# Altium schematic symbol library Schlib1.SchLib: 66 symbols
Pins are listed as number, name and electrical type; pins without a type are passive.

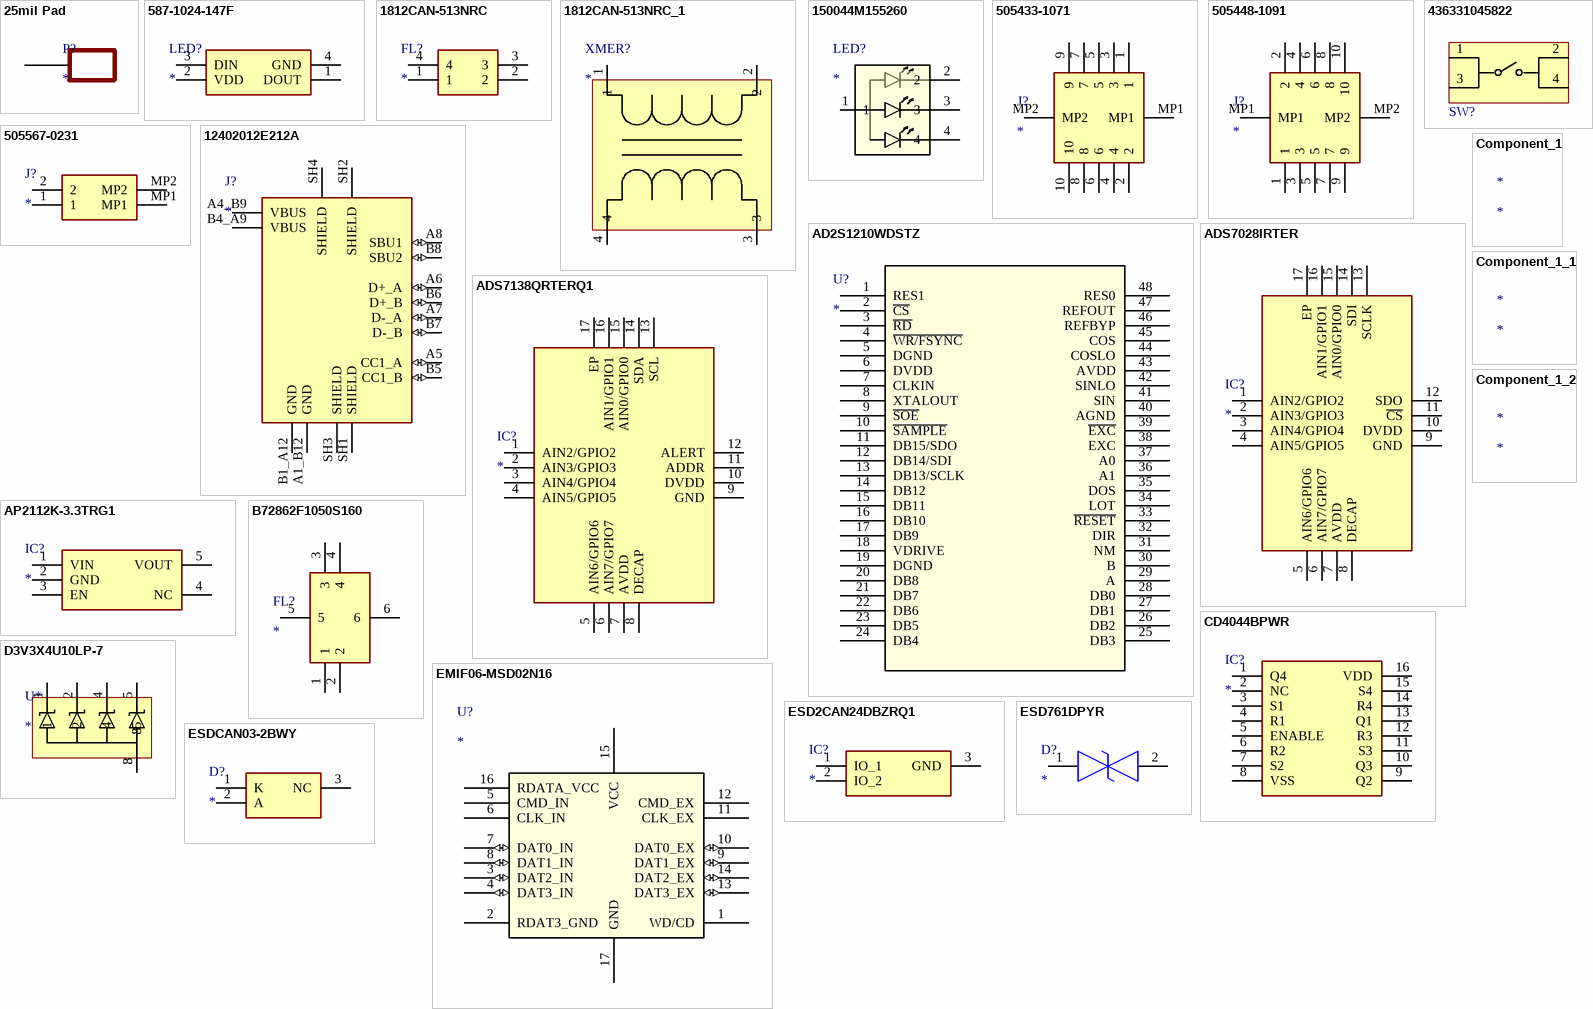
[diagram p0: symbols 25mil Pad to ESDCAN03-2BWY]

## 25mil Pad
designator P?
footprint PAD
pins: 0

## 587-1024-147F
designator LED?
LED; Manufacturer_Name: Dialight; Manufacturer_Part_Number: 587-1024-147F; Datasheet Link: https://s3-us-west-2.amazonaws.com/catsy.557/Dialight_datasheet_587-1024-147F_Addressable_RGB.pdf; Height: 0.9mm
footprint 5871024147F
pins: 1 DOUT, 2 VDD, 3 DIN, 4 GND

## 1812CAN-513NRC
designator FL?
Filter; Manufacturer_Name: COILCRAFT; Manufacturer_Part_Number: 1812CAN-513NRC; Datasheet Link: https://www.coilcraft.com/getmedia/07970769-ca48-411d-9c96-6ae867bbb31e/1812can.pdf; Height: 3mm; Mouser Part Number: 994-1812CAN-513NRC; Mouser Price/Stock: https://www.mouser.co.uk/ProductDetail/Coilcraft/1812CAN-513NRC?qs=wnTfsH77Xs4YqxEo%2FcWzJA%3D%3D
footprint 1812CAN513NRC
pins: 1, 2, 3, 4

## 1812CAN-513NRC_1
designator XMER?
No Description Available; Mfr_Name: Coilcraft; RefDes: RefDes; Type: Type
footprint XMER_1812CAN-513NRC_COC
pins: 1, 2, 3, 3, 3, 4

## 150044M155260
designator LED?
No Description Available; Mfr_Name: Wurth Electronics; RefDes: RefDes; Type: Type
footprint 150044M155260_WRE-L - duplicate
pins: 1, 2, 3, 4

## 505433-1071
designator J?
Connector; Manufacturer_Name: Molex; Manufacturer_Part_Number: 505433-1071; Datasheet Link: https://datasheet.datasheetarchive.com/originals/distributors/Datasheets_SAMA/5290a5563f9fde50455cc3ed2129c93a.pdf; Height: 7.25mm; Mouser Part Number: 538-505433-1071; Mouser Price/Stock: https://www.mouser.co.uk/ProductDetail/Molex/505433-1071?qs=gt1LBUVyoHnxbEZbXoNB2g%3D%3D
footprint 5054331071
pins: 1, 2, 3, 4, 5, 6, 7, 8, 9, 10, MP1, MP2

## 505448-1091
designator J?
Connector; Manufacturer_Name: Molex; Manufacturer_Part_Number: 505448-1091; Datasheet Link: https://www.molex.com/content/dam/molex/molex-dot-com/products/automated/en-us/salesdrawingpdf/505/505448/5054481091_sd.pdf; Height: 9.15mm; Mouser Part Number: 538-505448-1091; Mouser Price/Stock: https://www.mouser.co.uk/ProductDetail/Molex/505448-1091?qs=vmHwEFxEFR84Nb6AyJ3SnQ%3D%3D
footprint 5054481091
pins: 1, 2, 3, 4, 5, 6, 7, 8, 9, 10, MP1, MP2

## 505567-0231
designator J?
Connector; Manufacturer_Name: Molex; Manufacturer_Part_Number: 505567-0231; Datasheet Link: https://www.molex.com/pdm_docs/sd/5055670231_sd.pdf; Height: 4.1mm; Mouser Part Number: 538-505567-0231; Mouser Price/Stock: https://www.mouser.co.uk/ProductDetail/Molex/505567-0231?qs=vmHwEFxEFR9FgO9VigwN8A%3D%3D
footprint 5055670231
pins: 1, 2, MP1, MP2

## 12402012E212A
designator J?
USB2.0, Type C, Top mount, CH 1.68mm, Dual Row SMT; MP: 12402012E212A; MF: Amphenol ICC (Commercial Products); Price: None; Package: None; Availability: In Stock; SnapEDA_Link: https://www.snapeda.com/parts/12402012E212A/Amphenol/view-part/?ref=snap; Value: *; Check_prices: https://www.snapeda.com/parts/12402012E212A/Amphenol/view-part/?ref=eda; Purchase-URL: https://pricing.snapeda.com/search/part/12402012E212A/?ref=eda
footprint AMPHENOL_12402012E212A
pins: A1_B12 GND (power), A4_B9 VBUS (power), A5 CC1_A (io), A6 D+_A (io), A7 D-_A (io), A8 SBU1 (io), B1_A12 GND (power), B4_A9 VBUS (power), B5 CC1_B (io), B6 D+_B (io), B7 D-_B (io), B8 SBU2 (io), SH1 SHIELD, SH2 SHIELD, SH3 SHIELD, SH4 SHIELD

## 436331045822
designator SW?  (value not drawn)
footprint Wurth_0_MFG
pins: 1, 2, 3, 4

## AD2S1210WDSTZ
designator U?
No Description Available; Mfr_Name: Analog Devices Inc; RefDes: RefDes; Type: Type
footprint AD2S1210WDSTZ_ADI
pins: 1 RES1, 2 ~{CS}, 3 ~{RD}, 4 ~{WR/FSYNC}, 5 DGND, 6 DVDD, 7 CLKIN, 8 XTALOUT, 9 ~{SOE}, 10 ~{SAMPLE}, 11 DB15/SDO, 12 DB14/SDI, 13 DB13/SCLK, 14 DB12, 15 DB11, 16 DB10, 17 DB9, 18 VDRIVE, 19 DGND, 20 DB8, 21 DB7, 22 DB6, 23 DB5, 24 DB4, 25 DB3, 26 DB2, 27 DB1, 28 DB0, 29 A, 30 B, 31 NM, 32 DIR, 33 ~{RESET}, 34 LOT, 35 DOS, 36 A1, 37 A0, 38 EXC, 39 ~{EXC}, 40 AGND, 41 SIN, 42 SINLO, 43 AVDD, 44 COSLO, 45 COS, 46 REFBYP, 47 REFOUT, 48 RES0

## ADS7028IRTER
designator IC?
Integrated Circuit; Manufacturer_Name: Texas Instruments; Manufacturer_Part_Number: ADS7028IRTER; Datasheet Link: https://www.arrow.com/en/products/ads7028irter/texas-instruments; Height: 0.8mm; Mouser Part Number: 595-ADS7028IRTER; Mouser Price/Stock: https://www.mouser.co.uk/ProductDetail/Texas-Instruments/ADS7028IRTER?qs=%252B6g0mu59x7L0mzHBJBWvJw%3D%3D; Arrow Part Number: ADS7028IRTER; Arrow Price/Stock: https://www.arrow.com/en/products/ads7028irter/texas-instruments
footprint QFN50P300X300X80-17N-D
pins: 1 AIN2/GPIO2, 2 AIN3/GPIO3, 3 AIN4/GPIO4, 4 AIN5/GPIO5, 5 AIN6/GPIO6, 6 AIN7/GPIO7, 7 AVDD, 8 DECAP, 9 GND, 10 DVDD, 11 ~{CS}, 12 SDO, 13 SCLK, 14 SDI, 15 AIN0/GPIO0, 16 AIN1/GPIO1, 17 EP

## ADS7138QRTERQ1
designator IC?
Integrated Circuit; Manufacturer_Name: Texas Instruments; Manufacturer_Part_Number: ADS7138QRTERQ1; Datasheet Link: https://www.arrow.com/en/products/ads7138qrterq1/texas-instruments; Height: 0.8mm; Mouser Part Number: 595-ADS7138QRTERQ1; Mouser Price/Stock: https://www.mouser.co.uk/ProductDetail/Texas-Instruments/ADS7138QRTERQ1?qs=T94vaHKWudS4Tv1qZ6show%3D%3D; Arrow Part Number: ADS7138QRTERQ1; Arrow Price/Stock: https://www.arrow.com/en/products/ads7138qrterq1/texas-instruments?region=nac
footprint QFN50P300X300X80-17N-D
pins: 1 AIN2/GPIO2, 2 AIN3/GPIO3, 3 AIN4/GPIO4, 4 AIN5/GPIO5, 5 AIN6/GPIO6, 6 AIN7/GPIO7, 7 AVDD, 8 DECAP, 9 GND, 10 DVDD, 11 ADDR, 12 ALERT, 13 SCL, 14 SDA, 15 AIN0/GPIO0, 16 AIN1/GPIO1, 17 EP

## AP2112K-3.3TRG1
designator IC?
Integrated Circuit; Manufacturer_Name: Diodes Incorporated; Manufacturer_Part_Number: AP2112K-3.3TRG1; Datasheet Link: https://www.diodes.com//assets/Datasheets/AP2112.pdf; Height: 1.4mm; Mouser Part Number: 621-AP2112K-3.3TRG1; Mouser Price/Stock: https://www.mouser.co.uk/ProductDetail/Diodes-Incorporated/AP2112K-3.3TRG1?qs=x6A8l6qLYDDPYHosCdzh%2FA%3D%3D; Arrow Part Number: AP2112K-3.3TRG1; Arrow Price/Stock: https://www.arrow.com/en/products/ap2112k-3.3trg1/diodes-incorporated?region=europe
footprint SOT95P285X140-5N
pins: 1 VIN, 2 GND, 3 EN, 4 NC, 5 VOUT

## B72862F1050S160
designator FL?
Filter; Manufacturer_Name: TDK; Manufacturer_Part_Number: B72862F1050S160; Datasheet Link: https://product.tdk.com/system/files/dam/doc/product/protection/voltage/varistor_ctvs/data_sheet/75/db/ctvs_14/esd_emi_filter_series.pdf; Height: 0.65mm
footprint B72862F1050S160
pins: 1, 2, 3, 4, 5, 6

## CD4044BPWR
designator IC?
Integrated Circuit; Manufacturer_Name: Texas Instruments; Manufacturer_Part_Number: CD4044BPWR; Datasheet Link: http://www.ti.com/lit/gpn/cd4044b; Height: 1.2mm; Mouser Part Number: 595-CD4044BPWR; Mouser Price/Stock: https://www.mouser.co.uk/ProductDetail/Texas-Instruments/CD4044BPWR?qs=LSR%252BNeaw%2FwA0JC88gEuhWQ%3D%3D; Arrow Part Number: CD4044BPWR; Arrow Price/Stock: https://www.arrow.com/en/products/cd4044bpwr/texas-instruments?utm_currency=USD&region=nac
footprint SOP65P640X120-16N
pins: 1 Q4, 2 NC, 3 S1, 4 R1, 5 ENABLE, 6 R2, 7 S2, 8 VSS, 9 Q2, 10 Q3, 11 S3, 12 R3, 13 Q1, 14 R4, 15 S4, 16 VDD

## Component_1
designator *

## Component_1_1
designator *

## Component_1_2
designator *

## D3V3X4U10LP-7
designator U*
footprint DIO_DT1240-04LP-7
pins: 1, 2, 3, 4, 5, 8

## EMIF06-MSD02N16
designator U?
No Description Available; Mfr_Name: STMicroelectronics; RefDes: RefDes; Type: Type
footprint EMIF06MSD02N16
pins: 1 WD/CD, 2 RDAT3_GND (power), 3 DAT2_IN (io), 4 DAT3_IN (io), 5 CMD_IN, 6 CLK_IN, 7 DAT0_IN (io), 8 DAT1_IN (io), 9 DAT1_EX (io), 10 DAT0_EX (io), 11 CLK_EX, 12 CMD_EX, 13 DAT3_EX (io), 14 DAT2_EX (io), 15 VCC (power), 16 RDATA_VCC, 17 GND (power)

## ESD2CAN24DBZRQ1
designator IC?
Integrated Circuit; Manufacturer_Name: Texas Instruments; Manufacturer_Part_Number: ESD2CAN24DBZRQ1; Datasheet Link: https://www.ti.com/lit/ds/symlink/esd2can24-q1.pdf?ts=1669637432096&ref_url=https%253A%252F%252Fwww.ti.com%252Fproduct%252FESD2CAN24-Q1; Height: 1.12mm; Mouser Part Number: 595-ESD2CAN24DBZRQ1; Mouser Price/Stock: https://www.mouser.co.uk/ProductDetail/Texas-Instruments/ESD2CAN24DBZRQ1?qs=Y0Uzf4wQF3knJz9mU6BNuw%3D%3D; Arrow Part Number: ESD2CAN24DBZRQ1; Arrow Price/Stock: https://www.arrow.com/en/products/esd2can24dbzrq1/texas-instruments?utm_currency=USD&region=nac
footprint SOT95P237X112-3N
pins: 1 IO_1, 2 IO_2, 3 GND

## ESD761DPYR
designator D?
TVS Diode (Bi-directional); Manufacturer_Name: Texas Instruments; Manufacturer_Part_Number: ESD761DPYR; Datasheet Link: https://www.ti.com/lit/gpn/esd761; Height: 0.45mm; Mouser Part Number: 595-ESD761DPYR; Mouser Price/Stock: https://www.mouser.co.uk/ProductDetail/Texas-Instruments/ESD761DPYR?qs=rQFj71Wb1eUSXtGpLU8xBg%3D%3D; Arrow Part Number: ESD761DPYR; Arrow Price/Stock: https://www.arrow.com/en/products/esd761dpyr/texas-instruments?utm_currency=USD&region=nac
footprint ESD761DPYR
pins: 1, 2

## ESDCAN03-2BWY
designator D?
TVS Diode (Uni-directional); Manufacturer_Name: STMicroelectronics; Manufacturer_Part_Number: ESDCAN03-2BWY; Datasheet Link: https://www.mouser.de/datasheet/2/389/esdcan02-2bwy-954689.pdf; Height: 1.1mm; Mouser Part Number: 511-ESDCAN03-2BWY; Mouser Price/Stock: https://www.mouser.co.uk/ProductDetail/STMicroelectronics/ESDCAN03-2BWY?qs=FqY30PPN9V2iiokjuqa22Q%3D%3D; Arrow Part Number: ESDCAN03-2BWY; Arrow Price/Stock: https://www.arrow.com/en/products/esdcan03-2bwy/stmicroelectronics?region=nac
footprint SOT65P210X110-3N
pins: 1 K, 2 A, 3 NC

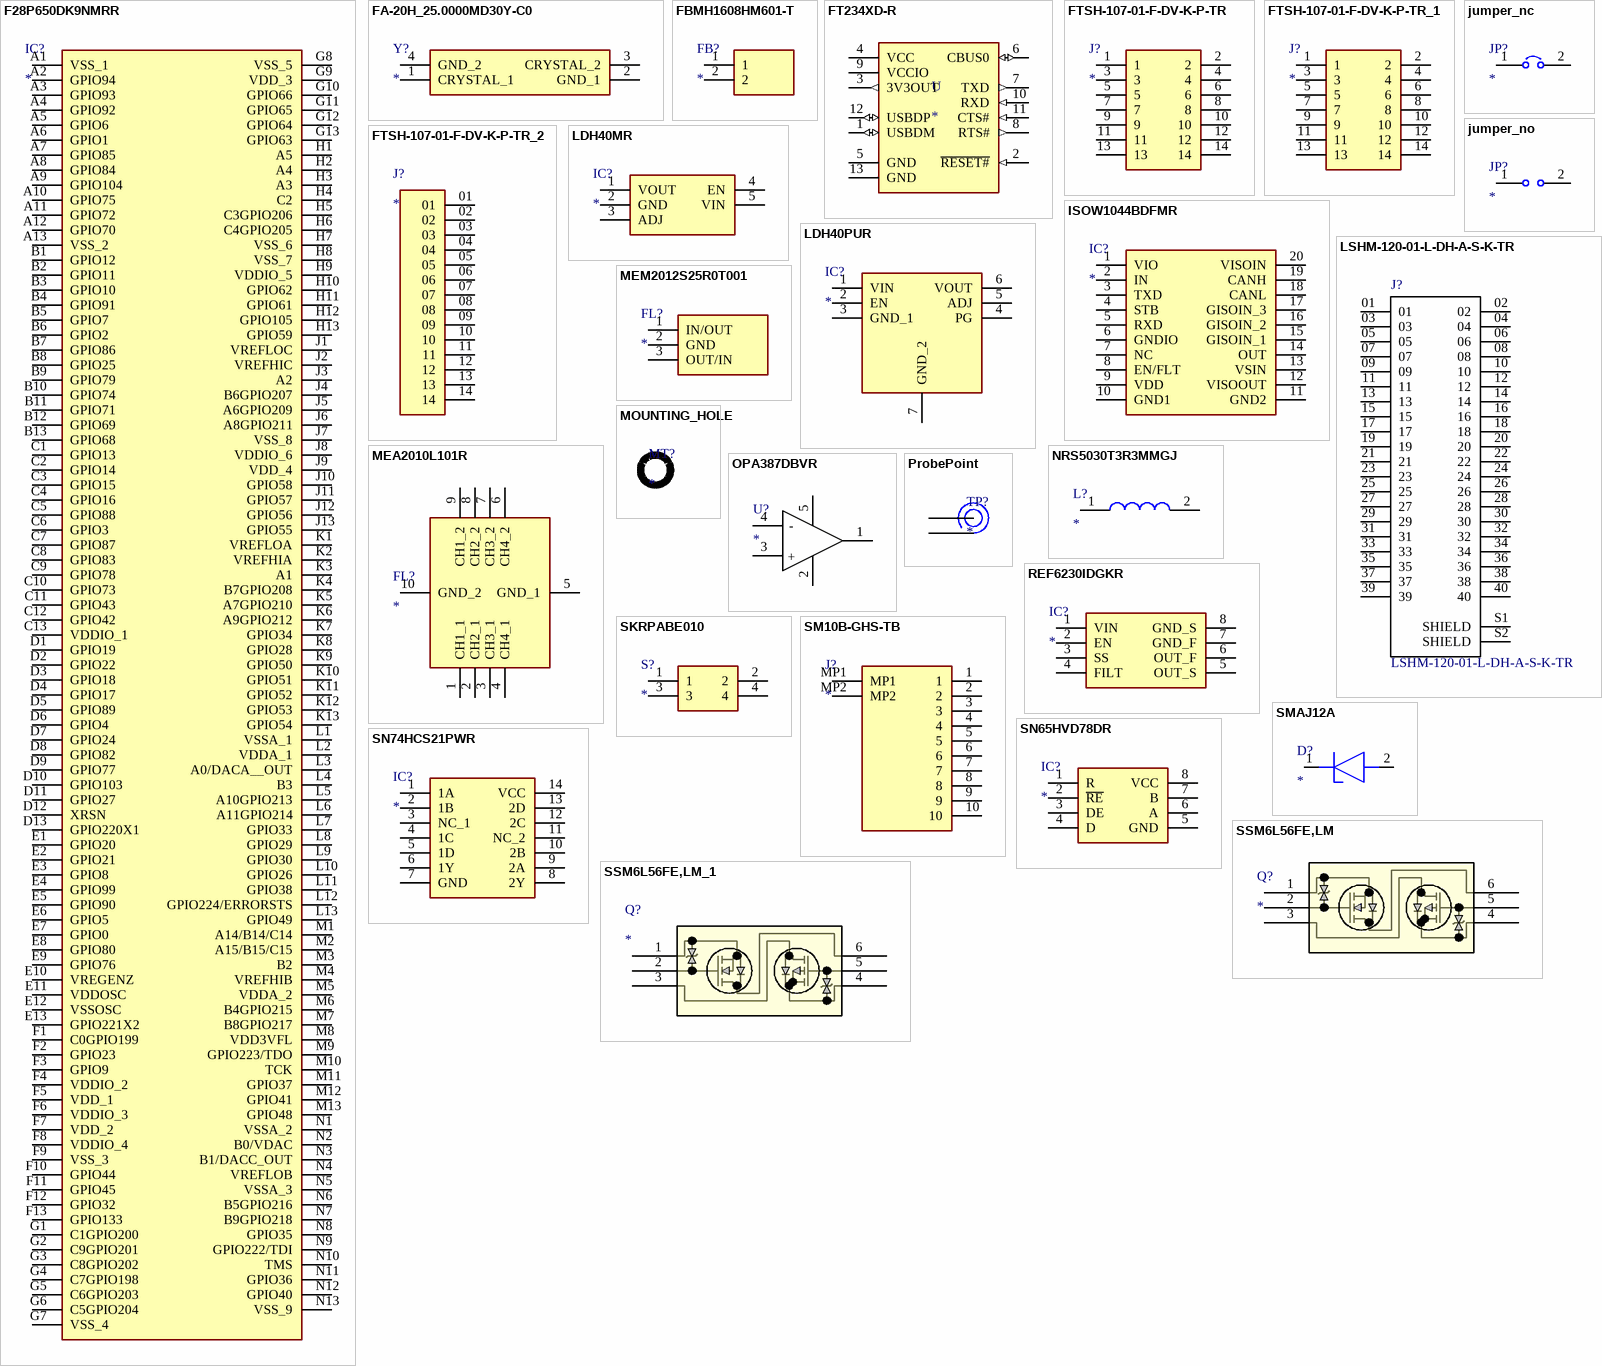
[diagram p1: symbols F28P650DK9NMRR to SSM6L56FE,LM_1]

## F28P650DK9NMRR
designator IC?
Integrated Circuit; Manufacturer_Name: Texas Instruments; Manufacturer_Part_Number: F28P650DK9NMRR; Datasheet Link: https://www.ti.com/lit/ds/symlink/tms320f28p650dk.pdf?ts=1743172224818&ref_url=https%253A%252F%252Fwww.ti.com%252Fproduct%252FTMS320F28P650DK%252Fpart-details%252FXF28P650DK9PTP; Height: 1mm; Mouser Part Number: 595-F28P650DK9NMRR; Mouser Price/Stock: https://www.mouser.co.uk/ProductDetail/Texas-Instruments/F28P650DK9NMRR?qs=ZcfC38r4PouP1IzeuqZ7kg%3D%3D; Arrow Part Number: F28P650DK9NMRR; Arrow Price/Stock: https://www.arrow.com/en/products/f28p650dk9nmrr/texas-instruments?utm_currency=USD&region=nac
footprint BGA169C65P13X13_900X900X100
pins: A1 VSS_1, A2 GPIO94, A3 GPIO93, A4 GPIO92, A5 GPIO6, A6 GPIO1, A7 GPIO85, A8 GPIO84, A9 GPIO104, A10 GPIO75, A11 GPIO72, A12 GPIO70, A13 VSS_2, B1 GPIO12, B2 GPIO11, B3 GPIO10, B4 GPIO91, B5 GPIO7, B6 GPIO2, B7 GPIO86, B8 GPIO25, B9 GPIO79, B10 GPIO74, B11 GPIO71, B12 GPIO69, B13 GPIO68, C1 GPIO13, C2 GPIO14, C3 GPIO15, C4 GPIO16, C5 GPIO88, C6 GPIO3, C7 GPIO87, C8 GPIO83, C9 GPIO78, C10 GPIO73, C11 GPIO43, C12 GPIO42, C13 VDDIO_1, D1 GPIO19, D2 GPIO22, D3 GPIO18, D4 GPIO17, D5 GPIO89, D6 GPIO4, D7 GPIO24, D8 GPIO82, D9 GPIO77, D10 GPIO103, D11 GPIO27, D12 XRSN, D13 GPIO220X1, E1 GPIO20, E2 GPIO21, E3 GPIO8, E4 GPIO99, E5 GPIO90, E6 GPIO5, E7 GPIO0, E8 GPIO80, E9 GPIO76, E10 VREGENZ, E11 VDDOSC, E12 VSSOSC, E13 GPIO221X2, F1 C0GPIO199, F2 GPIO23, F3 GPIO9, F4 VDDIO_2, F5 VDD_1, F6 VDDIO_3, F7 VDD_2, F8 VDDIO_4, F9 VSS_3, F10 GPIO44, F11 GPIO45, F12 GPIO32, F13 GPIO133, G1 C1GPIO200, G2 C9GPIO201, G3 C8GPIO202, G4 C7GPIO198, G5 C6GPIO203, G6 C5GPIO204, G7 VSS_4, G8 VSS_5, G9 VDD_3, G10 GPIO66, G11 GPIO65, G12 GPIO64, G13 GPIO63, H1 A5, H2 A4, H3 A3, H4 C2, H5 C3GPIO206, H6 C4GPIO205, H7 VSS_6, H8 VSS_7, H9 VDDIO_5, H10 GPIO62, H11 GPIO61, H12 GPIO105, H13 GPIO59, J1 VREFLOC, J2 VREFHIC, J3 A2, J4 B6GPIO207, J5 A6GPIO209, J6 A8GPIO211, J7 VSS_8, J8 VDDIO_6, J9 VDD_4, J10 GPIO58, J11 GPIO57, J12 GPIO56, J13 GPIO55, K1 VREFLOA, K2 VREFHIA, K3 A1, K4 B7GPIO208, K5 A7GPIO210, K6 A9GPIO212, K7 GPIO34, K8 GPIO28, K9 GPIO50, K10 GPIO51, K11 GPIO52, K12 GPIO53, K13 GPIO54, L1 VSSA_1, L2 VDDA_1, L3 A0/DACA__OUT, L4 B3, L5 A10GPIO213, L6 A11GPIO214, L7 GPIO33, L8 GPIO29, L9 GPIO30, L10 GPIO26, L11 GPIO38, L12 GPIO224/ERRORSTS, L13 GPIO49, M1 A14/B14/C14, M2 A15/B15/C15, M3 B2, M4 VREFHIB, M5 VDDA_2, M6 B4GPIO215, M7 B8GPIO217, M8 VDD3VFL, M9 GPIO223/TDO, M10 TCK, M11 GPIO37, M12 GPIO41, M13 GPIO48, N1 VSSA_2, N2 B0/VDAC, N3 B1/DACC_OUT, N4 VREFLOB, N5 VSSA_3, N6 B5GPIO216, N7 B9GPIO218, N8 GPIO35, N9 GPIO222/TDI, N10 TMS, N11 GPIO36, N12 GPIO40, N13 VSS_9

## FA-20H_25.0000MD30Y-C0
designator Y?
Crystal or Oscillator; Manufacturer_Name: Epson Timing; Manufacturer_Part_Number: FA-20H 25.0000MD30Y-C0; Datasheet Link: https://support.epson.biz/td/api/doc_check.php?dl=brief_FA-20H&lang=en; Height: 0.55mm; Mouser Part Number: 732-FA-20H25MD30Y-C0; Mouser Price/Stock: https://www.mouser.co.uk/ProductDetail/Epson-Timing/FA-20H-25.0000MD30Y-C0?qs=f9yNj16SXrILXPvNJZKsVQ%3D%3D; Arrow Part Number: FA-20H 25.0000MD30Y-C0; Arrow Price/Stock: https://www.arrow.com/en/products/fa-20h25.0000md30y-c0/epson-electronics-america
footprint FA20H160000MF12ZAC3
pins: 1 CRYSTAL_1, 2 GND_1, 3 CRYSTAL_2, 4 GND_2

## FBMH1608HM601-T
designator FB?
Ferrite Bead; Manufacturer_Name: TAIYO YUDEN; Manufacturer_Part_Number: FBMH1608HM601-T; Datasheet Link: https://componentsearchengine.com/Datasheets/2/FBMH1608HM601-T.pdf; Height: 0.9mm; Mouser Part Number: 963-FBMH1608HM601-T; Mouser Price/Stock: https://www.mouser.co.uk/ProductDetail/TAIYO-YUDEN/FBMH1608HM601-T?qs=I6KAKw0tg2y6O4cu0afp%252BA%3D%3D; Arrow Part Number: FBMH1608HM601-T; Arrow Price/Stock: https://www.arrow.com/en/products/fbmh1608hm601-t/taiyo-yuden
footprint BEADC1608X90N
pins: 1, 2

## FT234XD-R
designator U
USB Bridge, USB to UART USB 2.0 UART Interface 12-DFN _3x3_; MP: FT234XD-R; MF: FTDI,; SnapEDA_Link: https://www.snapeda.com/parts/FT234XD-R/FTDI,%20Future%20Technology%20Devices%20International%20Ltd/view-part/207972/?ref=snap; Package: DFN-12 FTDI; Price: None; Value: *; Availability: Unavailable
footprint SON45P300X300X75-13N-D
pins: 1 USBDM (io), 2 ~{RESET#} (in), 3 3V3OUT (out), 4 VCC (power), 5 GND (power), 6 CBUS0 (io), 7 TXD (out), 8 RTS# (out), 9 VCCIO (power), 10 RXD (in), 11 CTS# (in), 12 USBDP (io), 13 GND (power)

## FTSH-107-01-F-DV-K-P-TR
designator J?
Connector; Manufacturer_Name: SAMTEC; Manufacturer_Part_Number: FTSH-107-01-F-DV-K-P-TR; Datasheet Link: http://suddendocs.samtec.com/prints/ftsh-1xx-xx-xxx-dv-xxx-xxx-mkt.pdf; Mouser Part Number: 200-FTSH10701FDVKPTR; Mouser Price/Stock: https://www.mouser.co.uk/ProductDetail/Samtec/FTSH-107-01-F-DV-K-P-TR?qs=%252BZP6%2F%252BtExtAI0atx6lcXTg%3D%3D; Arrow Part Number: FTSH-107-01-F-DV-K-P-TR; Arrow Price/Stock: https://www.arrow.com/en/products/ftsh-107-01-f-dv-k-p-tr/samtec?utm_currency=USD&region=nac
footprint FTSH-107-XX-YYY-DV-K-P-TR
pins: 1, 2, 3, 4, 5, 6, 7, 8, 9, 10, 11, 12, 13, 14

## FTSH-107-01-F-DV-K-P-TR_1
designator J?
Connector; Manufacturer_Name: SAMTEC; Manufacturer_Part_Number: FTSH-107-01-F-DV-K-P-TR; Datasheet Link: http://suddendocs.samtec.com/prints/ftsh-1xx-xx-xxx-dv-xxx-xxx-mkt.pdf; Mouser Part Number: 200-FTSH10701FDVKPTR; Mouser Price/Stock: https://www.mouser.co.uk/ProductDetail/Samtec/FTSH-107-01-F-DV-K-P-TR?qs=%252BZP6%2F%252BtExtAI0atx6lcXTg%3D%3D; Arrow Part Number: FTSH-107-01-F-DV-K-P-TR; Arrow Price/Stock: https://www.arrow.com/en/products/ftsh-107-01-f-dv-k-p-tr/samtec?region=nac
footprint FTSH-107-XX-YYY-DV-K-P-TR
pins: 1, 2, 3, 4, 5, 6, 7, 8, 9, 10, 11, 12, 13, 14

## FTSH-107-01-F-DV-K-P-TR_2
designator J?
MP: FTSH-107-01-F-DV-K-P-TR; MF: Samtec; Price: None; Availability: Unavailable; Package: None; Value: *
footprint FTSH-107-XX-YYY-DV-K-P-TR
pins: 01, 02, 03, 04, 05, 06, 07, 08, 09, 10, 11, 12, 13, 14

## ISOW1044BDFMR
designator IC?
Integrated Circuit; Manufacturer_Name: Texas Instruments; Manufacturer_Part_Number: ISOW1044BDFMR; Datasheet Link: https://www.ti.com/lit/ds/symlink/isow1044.pdf?ts=1645295421849&ref_url=https%253A%252F%252Fwww.google.com%252F; Height: 3.55mm; Mouser Part Number: 595-ISOW1044BDFMR; Mouser Price/Stock: https://www.mouser.co.uk/ProductDetail/Texas-Instruments/ISOW1044BDFMR?qs=Li%252BoUPsLEnsRP1xV2fQwnw%3D%3D; Arrow Part Number: ISOW1044BDFMR; Arrow Price/Stock: https://www.arrow.com/en/products/isow1044bdfmr/texas-instruments?utm_currency=USD&region=nac
footprint SOIC127P1030X355-20N
pins: 1 VIO, 2 IN, 3 TXD, 4 STB, 5 RXD, 6 GNDIO, 7 NC, 8 EN/FLT, 9 VDD, 10 GND1, 11 GND2, 12 VISOOUT, 13 VSIN, 14 OUT, 15 GISOIN_1, 16 GISOIN_2, 17 GISOIN_3, 18 CANL, 19 CANH, 20 VISOIN

## jumper_nc
designator JP?
footprint jumper_nc
pins: 1, 2

## jumper_no
designator JP?
footprint jumper_no
pins: 1, 2

## LDH40MR
designator IC?
Integrated Circuit; Manufacturer_Name: STMicroelectronics; Manufacturer_Part_Number: LDH40MR; Datasheet Link: https://www.st.com/resource/en/datasheet/ldh40.pdf; Height: 1.25mm
footprint SOT95P280X125-5N
pins: 1 VOUT, 2 GND, 3 ADJ, 4 EN, 5 VIN

## LDH40PUR
designator IC?
Integrated Circuit; Manufacturer_Name: STMicroelectronics; Manufacturer_Part_Number: LDH40PUR; Datasheet Link: https://www.st.com/resource/en/datasheet/ldh40.pdf; Height: 0.8mm
footprint SON65P200X200X80-7N
pins: 1 VIN, 2 EN, 3 GND_1, 4 PG, 5 ADJ, 6 VOUT, 7 GND_2

## LSHM-120-01-L-DH-A-S-K-TR
designator J?
Value: *
footprint *SAMTEC_LSHM-120-01-L-DH-A-S-K-TR_LSHM-120-01-L-DH-A-S-K-TR(Primary)
pins: 01, 02, 03, 04, 05, 06, 07, 08, 09, 10, 11, 12, 13, 14, 15, 16, 17, 18, 19, 20, 21, 22, 23, 24, 25, 26, 27, 28, 29, 30, 31, 32, 33, 34, 35, 36, 37, 38, 39, 40, S1 SHIELD, S2 SHIELD

## MEA2010L101R
designator FL?
Filter; Manufacturer_Name: TDK; Manufacturer_Part_Number: MEA2010L101R; Datasheet Link: https://product.tdk.com/info/en/catalog/datasheets/3tf_commercial_signal_mea2010l_en.pdf; Height: 0.8mm; Mouser Part Number: 810-MEA2010L101R; Mouser Price/Stock: https://www.mouser.com/Search/Refine.aspx?Keyword=810-MEA2010L101R
footprint MEA2010L101R
pins: 1 CH1_1, 2 CH2_1, 3 CH3_1, 4 CH4_1, 5 GND_1, 6 CH4_2, 7 CH3_2, 8 CH2_2, 9 CH1_2, 10 GND_2

## MEM2012S25R0T001
designator FL?
Filter; Manufacturer_Name: TDK; Manufacturer_Part_Number: MEM2012S25R0T001; Datasheet Link: https://product.tdk.com/system/files/dam/doc/product/emc/emc/3tf/catalog/3tf_commercial_signal_mem2012s_en.pdf; Height: 1mm; Mouser Part Number: 810-MEM2012S25R0T001; Mouser Price/Stock: https://www.mouser.co.uk/ProductDetail/TDK/MEM2012S25R0T001?qs=uxmvvYJjMIvgfrdEOPTgFw%3D%3D; Arrow Part Number: MEM2012S25R0T001; Arrow Price/Stock: https://www.arrow.com/en/products/mem2012s25r0t001/tdk?region=nac
footprint MEM2012S25R0T001
pins: 1 IN/OUT, 2 GND, 3 OUT/IN

## MOUNTING_HOLE
designator MT?
Generic Mounting Hole
footprint MountingHole_3mm

## NRS5030T3R3MMGJ
designator L?
Inductor; Manufacturer_Name: TAIYO YUDEN; Manufacturer_Part_Number: NRS5030T3R3MMGJ; Datasheet Link: https://datasheet.datasheetarchive.com/originals/distributors/Datasheets-DGA11/2227925.pdf; Height: 3.3mm; Mouser Part Number: 963-NRS5030T3R3MMGJ; Mouser Price/Stock: https://www.mouser.co.uk/ProductDetail/TAIYO-YUDEN/NRS5030T3R3MMGJ?qs=CNQs48zzdnrswI8nrL9nYw%3D%3D; Arrow Part Number: NRS5030T3R3MMGJ; Arrow Price/Stock: https://www.arrow.com/en/products/nrs5030t3r3mmgj/taiyo-yuden?region=nac
footprint INDC4949X330N
pins: 1, 2

## OPA387DBVR
designator U?
No Description Available; Mfr_Name: Texas Instruments; TYPE: TYPE; RefDes: RefDes
footprint DBV0005A-IPC_C
pins: 1 OUT, 2 V- (power), 3 +IN (hiz), 4 -IN (hiz), 5 V+ (power)
text: -; +

## ProbePoint
designator TP?
footprint ProbePoint
pins: 1, 2

## REF6230IDGKR
designator IC?
Integrated Circuit; Manufacturer_Name: Texas Instruments; Manufacturer_Part_Number: REF6230IDGKR; Datasheet Link: http://www.ti.com/lit/gpn/ref6230; Height: 1.1mm; Mouser Part Number: 595-REF6230IDGKR; Mouser Price/Stock: https://www.mouser.co.uk/ProductDetail/Texas-Instruments/REF6230IDGKR?qs=KuuZdrM3jLzYEddpWum8mQ%3D%3D; Arrow Part Number: REF6230IDGKR; Arrow Price/Stock: https://www.arrow.com/en/products/ref6230idgkr/texas-instruments
footprint SOP65P490X110-8N
pins: 1 VIN, 2 EN, 3 SS, 4 FILT, 5 OUT_S, 6 OUT_F, 7 GND_F, 8 GND_S

## SKRPABE010
designator S?
Switch; Manufacturer_Name: ALPS Electric; Manufacturer_Part_Number: SKRPABE010; Datasheet Link: https://tech.alpsalpine.com/e/products/detail/SKRPABE010/; Height: 2.5mm; Mouser Part Number: 688-SKRPAB; Mouser Price/Stock: https://www.mouser.co.uk/ProductDetail/Alps-Alpine/SKRPABE010?qs=m0BA540hBPe1GpcSf%2FZ5Yw%3D%3D
footprint SKRPABE010
pins: 1, 2, 3, 4

## SM10B-GHS-TB
designator J?
Connector; Manufacturer_Name: 3D SYSTEMS; Manufacturer_Part_Number: SM10B-GHS-TB; Datasheet Link: https://4donline.ihs.com/images/VipMasterIC/IC/JSTM/JSTMS02184/JSTMS02184-1.pdf?hkey=EF798316E3902B6ED9A73243A3159BB0; Height: 4.25mm
footprint SM10BGHSTB
pins: 1, 2, 3, 4, 5, 6, 7, 8, 9, 10, MP1, MP2

## SMAJ12A
designator D?
Diode ESD (Uni-directional); Manufacturer_Name: LITTELFUSE; Manufacturer_Part_Number: SMAJ12A; Datasheet Link: https://www.littelfuse.com/~/media/electronics/datasheets/tvs_diodes/littelfuse_tvs_diode_smaj_datasheet.pdf.pdf; Height: 2.29mm; Mouser Part Number: 576-SMAJ12A; Mouser Price/Stock: https://www.mouser.co.uk/ProductDetail/Littelfuse/SMAJ12A?qs=HR2RnyOI4E63xEASay2NCQ%3D%3D; Arrow Part Number: SMAJ12A; Arrow Price/Stock: https://www.arrow.com/en/products/smaj12a/littelfuse?region=europe
footprint DIOM5127X229N
pins: 1 K, 2 A

## SN65HVD78DR
designator IC?
Integrated Circuit; Manufacturer_Name: Texas Instruments; Manufacturer_Part_Number: SN65HVD78DR; Datasheet Link: http://www.ti.com/lit/gpn/sn65hvd78; Height: 1.75mm; Mouser Part Number: 595-SN65HVD78DR; Mouser Price/Stock: https://www.mouser.co.uk/ProductDetail/Texas-Instruments/SN65HVD78DR?qs=GIZt7gVh5wSQImLM3RD5ag%3D%3D; Arrow Part Number: SN65HVD78DR; Arrow Price/Stock: https://www.arrow.com/en/products/sn65hvd78dr/texas-instruments?region=nac
footprint SOIC127P600X175-8N
pins: 1 R, 2 ~{RE}, 3 DE, 4 D, 5 GND, 6 A, 7 B, 8 VCC

## SN74HCS21PWR
designator IC?
Integrated Circuit; Manufacturer_Name: Texas Instruments; Manufacturer_Part_Number: SN74HCS21PWR; Datasheet Link: https://www.ti.com/lit/gpn/SN74HCS21; Height: 1.2mm; Mouser Part Number: 595-SN74HCS21PWR; Mouser Price/Stock: https://www.mouser.co.uk/ProductDetail/Texas-Instruments/SN74HCS21PWR?qs=GedFDFLaBXETYHCH97WONA%3D%3D; Arrow Part Number: SN74HCS21PWR; Arrow Price/Stock: https://www.arrow.com/en/products/sn74hcs21pwr/texas-instruments?region=nac
footprint SOP65P640X120-14N
pins: 1 1A, 2 1B, 3 NC_1, 4 1C, 5 1D, 6 1Y, 7 GND, 8 2Y, 9 2A, 10 2B, 11 NC_2, 12 2C, 13 2D, 14 VCC

## SSM6L56FE,LM
designator Q?
No Description Available; Mfr_Name: Toshiba Electronic Devices & Storage Corp.; RefDes: RefDes; Type: Type
footprint SOT-563ES6_TOS
pins: 1, 2, 3, 4, 5, 6

## SSM6L56FE,LM_1
designator Q?
No Description Available; Mfr_Name: Toshiba Electronic Devices & Storage Corp.; RefDes: RefDes; Type: Type
footprint SOT-563ES6_TOS
pins: 1, 2, 3, 4, 5, 6

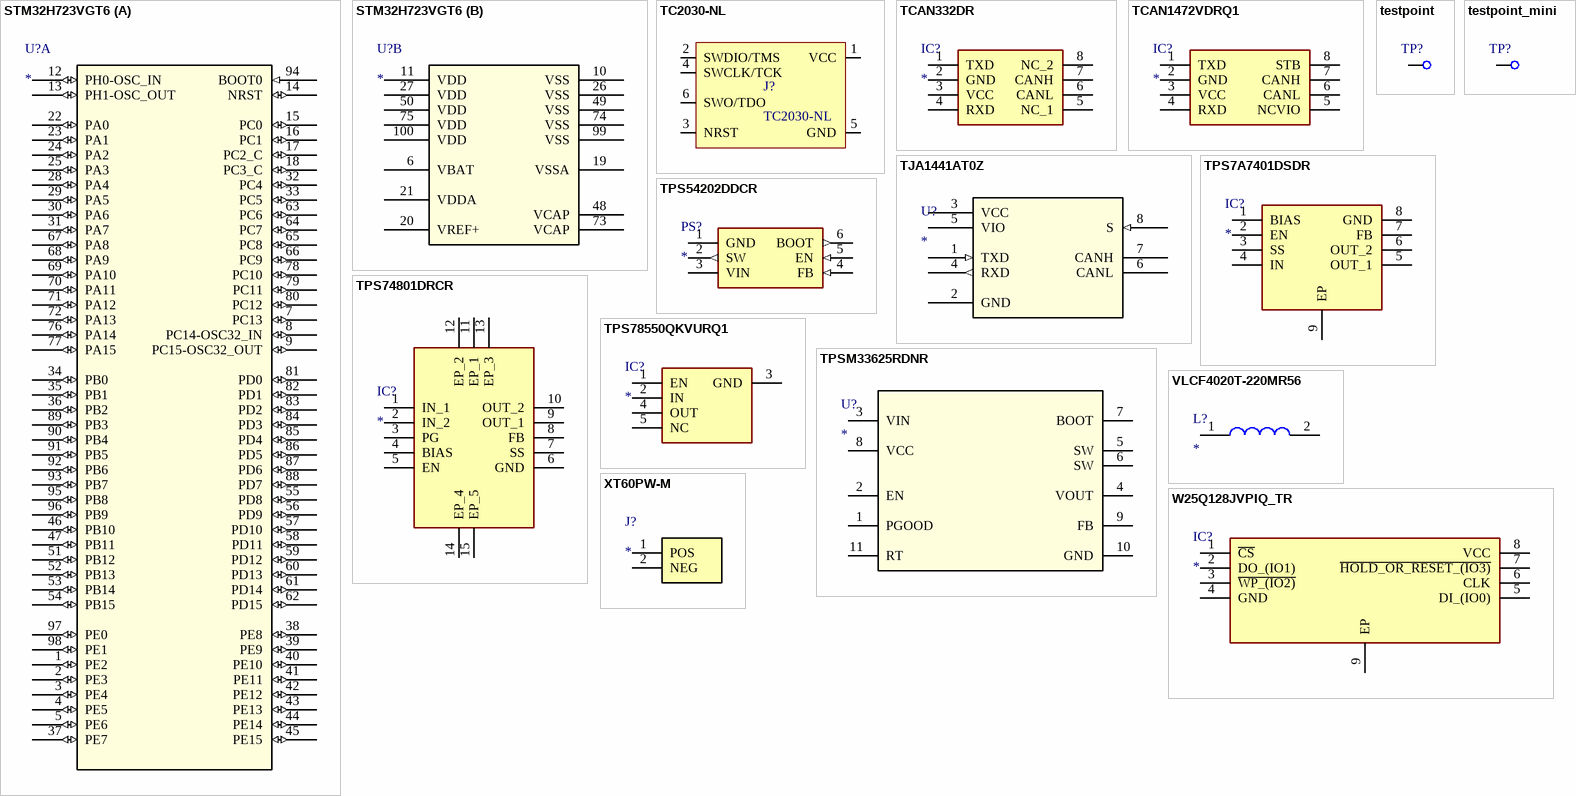
[diagram p2: symbols STM32H723VGT6 to XT60PW-M]

## STM32H723VGT6
designator U?
No Description Available; Mfr_Name: STMicroelectronics; RefDes: RefDes; Type: Type
footprint LQFP100_STM
part A pins: 1 PE2 (io), 2 PE3 (io), 3 PE4 (io), 4 PE5 (io), 5 PE6 (io), 7 PC13 (io), 8 PC14-OSC32_IN (io), 9 PC15-OSC32_OUT (io), 12 PH0-OSC_IN (io), 13 PH1-OSC_OUT (io), 14 NRST (io), 15 PC0 (io), 16 PC1 (io), 17 PC2_C (io), 18 PC3_C (io), 22 PA0 (io), 23 PA1 (io), 24 PA2 (io), 25 PA3 (io), 28 PA4 (io), 29 PA5 (io), 30 PA6 (io), 31 PA7 (io), 32 PC4 (io), 33 PC5 (io), 34 PB0 (io), 35 PB1 (io), 36 PB2 (io), 37 PE7 (io), 38 PE8 (io), 39 PE9 (io), 40 PE10 (io), 41 PE11 (io), 42 PE12 (io), 43 PE13 (io), 44 PE14 (io), 45 PE15 (io), 46 PB10 (io), 47 PB11 (io), 51 PB12 (io), 52 PB13 (io), 53 PB14 (io), 54 PB15 (io), 55 PD8 (io), 56 PD9 (io), 57 PD10 (io), 58 PD11 (io), 59 PD12 (io), 60 PD13 (io), 61 PD14 (io), 62 PD15 (io), 63 PC6 (io), 64 PC7 (io), 65 PC8 (io), 66 PC9 (io), 67 PA8 (io), 68 PA9 (io), 69 PA10 (io), 70 PA11 (io), 71 PA12 (io), 72 PA13 (io), 76 PA14 (io), 77 PA15 (io), 78 PC10 (io), 79 PC11 (io), 80 PC12 (io), 81 PD0 (io), 82 PD1 (io), 83 PD2 (io), 84 PD3 (io), 85 PD4 (io), 86 PD5 (io), 87 PD6 (io), 88 PD7 (io), 89 PB3 (io), 90 PB4 (io), 91 PB5 (io), 92 PB6 (io), 93 PB7 (io), 94 BOOT0 (in), 95 PB8 (io), 96 PB9 (io), 97 PE0 (io), 98 PE1 (io)
part B pins: 6 VBAT (power), 10 VSS (power), 11 VDD (power), 19 VSSA (power), 20 VREF+ (power), 21 VDDA (power), 26 VSS (power), 27 VDD (power), 48 VCAP (power), 49 VSS (power), 50 VDD (power), 73 VCAP (power), 74 VSS (power), 75 VDD (power), 99 VSS (power), 100 VDD (power)

## TC2030-NL
designator J?  (no BOM)
Tag-Connect No-Solder SWD Debug Connector (No Legs) DO NOT PLACE; Manufacturer Part Number: TC2030-NL-FP; Manufacturer: Tag-Connect
footprint TC2030-NL-FP
pins: 1 VCC, 2 SWDIO/TMS, 3 NRST, 4 SWCLK/TCK, 5 GND, 6 SWO/TDO

## TCAN332DR
designator IC?
Integrated Circuit; Manufacturer_Name: Texas Instruments; Manufacturer_Part_Number: TCAN332DR; Datasheet Link: http://www.ti.com/lit/ds/symlink/tcan332.pdf; Height: 1.75mm; Mouser Part Number: 595-TCAN332DR; Mouser Price/Stock: https://www.mouser.co.uk/ProductDetail/Texas-Instruments/TCAN332DR?qs=n%252BTO0c4TDSYIUeM9WmVMtA%3D%3D; Arrow Part Number: TCAN332DR; Arrow Price/Stock: https://www.arrow.com/en/products/tcan332dr/texas-instruments?region=nac
footprint SOIC127P600X175-8N
pins: 1 TXD, 2 GND, 3 VCC, 4 RXD, 5 NC_1, 6 CANL, 7 CANH, 8 NC_2

## TCAN1472VDRQ1
designator IC?
Integrated Circuit; Manufacturer_Name: Texas Instruments; Manufacturer_Part_Number: TCAN1472VDRQ1; Datasheet Link: https://www.ti.com/lit/ds/symlink/tcan1472-q1.pdf; Height: 1.75mm; Mouser Part Number: 595-TCAN1472VDRQ1; Mouser Price/Stock: https://www.mouser.co.uk/ProductDetail/Texas-Instruments/TCAN1472VDRQ1?qs=7%2F6SraaimPTs1XgFSA%2FENg%3D%3D
footprint SOIC127P600X175-8N
pins: 1 TXD, 2 GND, 3 VCC, 4 RXD, 5 NCVIO, 6 CANL, 7 CANH, 8 STB

## testpoint
designator TP?  (value not drawn)
Testpoint
footprint testpoint1_5mm
pins: 1

## testpoint_mini
designator TP?  (value not drawn)
Testpoint
footprint testpoint_75mm
pins: 1

## TJA1441AT0Z
designator U?
No Description Available; Mfr_Name: NXP; RefDes: RefDes; Type: Type
footprint SO8_SOT96-1_NXP-M
pins: 1 TXD (in), 2 GND (power), 3 VCC (power), 4 RXD (out), 5 VIO (power), 6 CANL, 7 CANH, 8 S (in)

## TPS7A7401DSDR
designator IC?
Integrated Circuit; Manufacturer_Name: Texas Instruments; Manufacturer_Part_Number: TPS7A7401DSDR; Datasheet Link: https://www.ti.com.cn/product/zh-cn/TPS7A74?keyMatch=TPS7A74&tisearch=search-everything&usecase=GPN; Height: 0.8mm; Mouser Part Number: 595-TPS7A7401DSDR; Mouser Price/Stock: https://www.mouser.co.uk/ProductDetail/Texas-Instruments/TPS7A7401DSDR?qs=By6Nw2ByBD2%252B%252Bu9jtFouWQ%3D%3D
footprint SON65P300X300X80-9N-D
pins: 1 BIAS, 2 EN, 3 SS, 4 IN, 5 OUT_1, 6 OUT_2, 7 FB, 8 GND, 9 EP

## TPS54202DDCR
designator PS?
Power Supply; Manufacturer_Name: Texas Instruments; Manufacturer_Part_Number: TPS54202DDCR; Datasheet Link: http://www.ti.com/lit/gpn/tps54202; Height: 1.1mm; Mouser Part Number: 595-TPS54202DDCR; Mouser Price/Stock: https://www.mouser.co.uk/ProductDetail/Texas-Instruments/TPS54202DDCR?qs=uP22XH7NdCsJtN%2Fq54jCtQ%3D%3D; Arrow Part Number: TPS54202DDCR; Arrow Price/Stock: https://www.arrow.com/en/products/tps54202ddcr/texas-instruments?utm_currency=USD&region=europe
footprint SOT95P280X110-6N
pins: 1 GND (power), 2 SW (out), 3 VIN (power), 4 FB (in), 5 EN (in), 6 BOOT (out)

## TPS74801DRCR
designator IC?
Integrated Circuit; Manufacturer_Name: Texas Instruments; Manufacturer_Part_Number: TPS74801DRCR; Description: Single-output 1.5A LDO regulator; Datasheet Link: https://www.ti.com/lit/gpn/TPS74801; Height: 1mm; Mouser Part Number: 595-TPS74801DRCR; Mouser Price/Stock: https://www.mouser.co.uk/ProductDetail/Texas-Instruments/TPS74801DRCR?qs=MiEMpo83RV6vgm8Iaojmyg%3D%3D; Arrow Part Number: TPS74801DRCR; Arrow Price/Stock: https://www.arrow.com/en/products/tps74801drcr/texas-instruments?region=nac
footprint TPS74801DRCR
pins: 1 IN_1, 2 IN_2, 3 PG, 4 BIAS, 5 EN, 6 GND, 7 SS, 8 FB, 9 OUT_1, 10 OUT_2, 11 EP_1, 12 EP_2, 13 EP_3, 14 EP_4, 15 EP_5

## TPS78550QKVURQ1
designator IC?
Integrated Circuit; Manufacturer_Name: Texas Instruments; Manufacturer_Part_Number: TPS78550QKVURQ1; Datasheet Link: https://www.ti.com/lit/gpn/tps785-q1; Height: 2.52mm; Mouser Part Number: 595-TPS78550QKVURQ1; Mouser Price/Stock: https://www.mouser.co.uk/ProductDetail/Texas-Instruments/TPS78550QKVURQ1?qs=iLbezkQI%252BsjGUi0b5lPjaA%3D%3D; Arrow Part Number: TPS78550QKVURQ1; Arrow Price/Stock: https://www.arrow.com/en/products/tps78550qkvurq1/texas-instruments?region=nac
footprint TPS78550QKVURQ1
pins: 1 EN, 2 IN, 3 GND, 4 OUT, 5 NC

## TPSM33625RDNR
designator U?
No Description Available; Mfr_Name: Texas Instruments; TYPE: TYPE; RefDes: RefDes
footprint RDN0011A-MFG
pins: 1 PGOOD (oc), 2 EN (power), 3 VIN (power), 4 VOUT (power), 5 SW, 6 SW, 7 BOOT, 8 VCC, 9 FB, 10 GND (power), 11 RT

## VLCF4020T-220MR56
designator L?
Inductor; Manufacturer_Name: TDK; Manufacturer_Part_Number: VLCF4020T-220MR56; Datasheet Link: https://product.tdk.com/system/files/dam/doc/product/inductor/inductor/smd/catalog/inductor_commercial_power_vlcf4020_en.pdf; Mouser Part Number: 810-VLCF4020T220MR56; Mouser Price/Stock: https://www.mouser.co.uk/ProductDetail/TDK/VLCF4020T-220MR56?qs=O2qRfqcg9D8DoR1uKFMlTA%3D%3D; Arrow Part Number: VLCF4020T-220MR56; Arrow Price/Stock: https://www.arrow.com/en/products/vlcf4020t-220mr56/tdk?region=nac
footprint VLCF4020
pins: 1, 2

## W25Q128JVPIQ_TR
designator IC?
Integrated Circuit; Manufacturer_Name: Winbond; Manufacturer_Part_Number: W25Q128JVPIQ TR; Datasheet Link: https://www.winbond.com/resource-files/w25q128jv%20revf%2003272018%20plus.pdf; Height: 0.8mm; Mouser Part Number: 454-W25Q128JVPIQTR; Mouser Price/Stock: https://www.mouser.co.uk/ProductDetail/Winbond/W25Q128JVPIQ-TR?qs=qSfuJ%252Bfl%2Fd6H7vbXyrDu3w%3D%3D; Arrow Part Number: W25Q128JVPIQ TR; Arrow Price/Stock: https://www.arrow.com/en/products/w25q128jvpiqtr/winbond-electronics?utm_currency=USD&region=nac
footprint SON127P600X500X80-9N-D
pins: 1 ~{CS}, 2 DO_(IO1), 3 ~{WP_(IO2)}, 4 GND, 5 DI_(IO0), 6 CLK, 7 ~{HOLD_OR_RESET_(IO3)}, 8 VCC, 9 EP

## XT60PW-M
designator J?
Socket, DC supply, male, PIN: 2; MF: AMASS; MP: XT60PW-M; Check_prices: https://www.snapeda.com/parts/XT60PW-M/AMASS/view-part/?ref=eda; SnapEDA_Link: https://www.snapeda.com/parts/XT60PW-M/AMASS/view-part/?ref=snap; Price: None; Availability: Not in stock; Package: Package; Value: *
footprint AMASS_XT60PW-M
pins: 1 POS, 2 NEG